# Altium footprint library CL_BOURNS_SDR0604_58x60.PcbLib: 1 footprints
Each footprint in its own frame and in the unit in brackets; x right, y up, seen from the top. Pads: shape width x height; smd on the part's side, far side on the other; paste and mask are expansions set on the pad; w line width, h text height; cw(c..) or ccw(c..) is an arc to the next point about the centre after c.
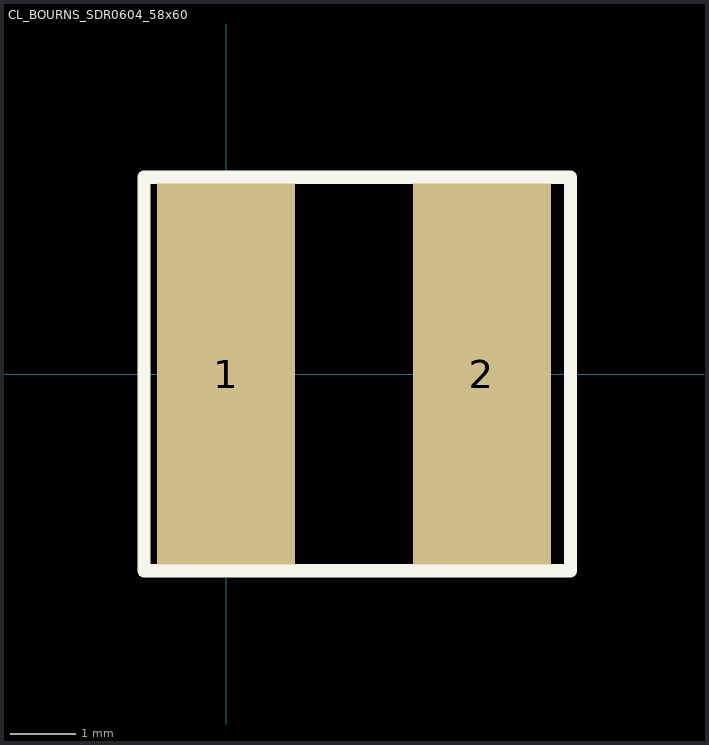
[diagram p0: the footprint, top view; thin cyan lines are the x and y axes]

## CL_BOURNS_SDR0604_58x60 [mm]
pads (2):
  rect 2.1x5.8 smd: 1(0,0) 2(3.9,0)
Top Overlay:
  lines w0.203: -1.25,-3 -1.25,3 5.25,3 5.25,-3 -1.25,-3
3D body: height 4.55, standoff 0, extent -0.754,-2.8 4.754,2.8